# Altium schematic symbol library SMA.SchLib: 1 symbol
Pins are listed as number, name and electrical type; pins without a type are passive.

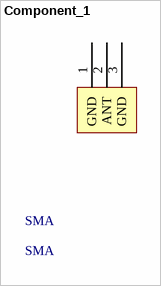
[diagram p0: symbol Component_1]

## Component_1
designator SMA, comment SMA
footprint SMA
pins: 1 GND, 2 ANT, 3 GND